# Altium schematic symbol library MISC_Library.SchLib: 20 symbols
Pins are listed as number, name and electrical type; pins without a type are passive.

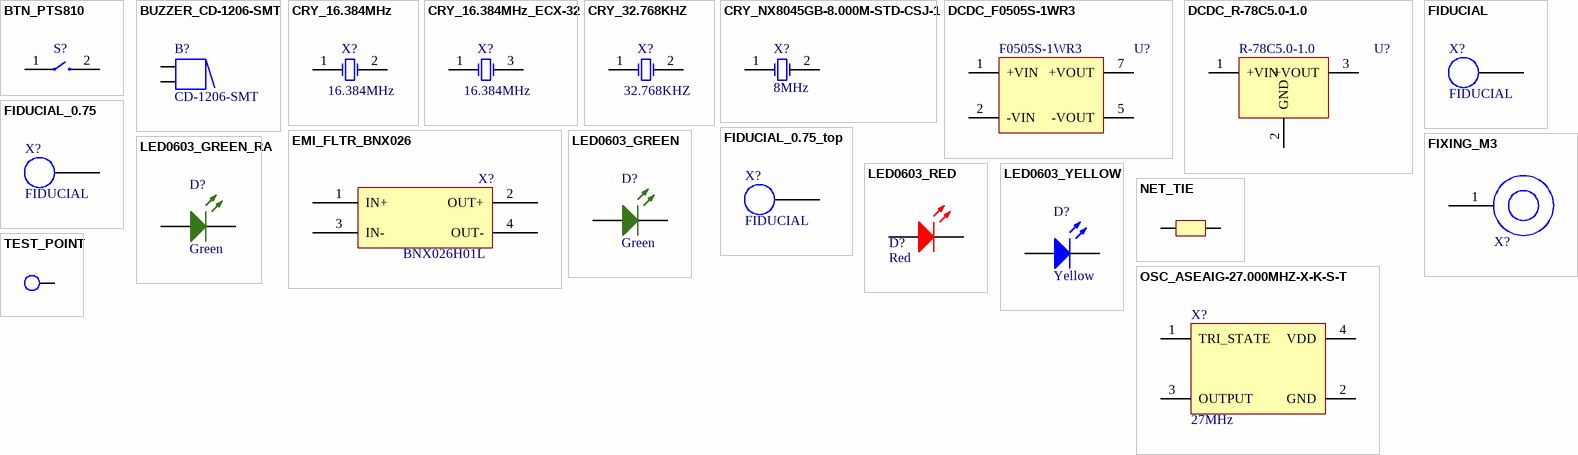
[diagram p0: symbols BTN_PTS810 to TEST_POINT]

## BTN_PTS810
designator S?, comment SPST  (value not drawn)
SWITCH TACTILE SPST-NO 0.05A 16V; P/N: PTS810 SJG 250 SMTR LFS; Order Code: DIGI : CKN10504DKR-ND; Value: SPST
footprint BTN_PTS810
pins: 1 OSC1, 2 OSC2

## BUZZER_CD-1206-SMT
designator B?, comment CD-1206-SMT
BUZZER AUDIO MAGNETIC XDCR 4-8V SMD; Order Code: DIGI : 102-1150-ND; P/N: CD-1206-SMT
footprint BUZZER_CD-1206-SMT
pins: 1 +, 2

## CRY_16.384MHz
designator X?, comment 16.384MHz
CRYSTAL 16.3840MHZ 18PF SMD; P/N: ABLS2-16.384MHZ-D4Y-T; Order Code: DIGI : 535-9876-6-ND; Value: 16.384MHz
footprint CRY_HC49SMD
pins: 1 OSC1, 2 OSC2

## CRY_16.384MHz_ECX-32
designator X?, comment 16.384MHz
CRYSTAL 16.3840MHZ 18PF SMD; P/N: ECS-163.84-18-33-JGN-TR; Order Code: DIGI : XC2306DKR-ND; Value: 16.384MHz
footprint CRY_ECX32
pins: 1 OSC1, 3 OSC2

## CRY_32.768KHZ
designator X?, comment 32.768KHZ
CRYSTAL 32.768KHZ 12.5PF SMD; P/N: CM7V-T1A-32.768KHZ-12.5PF-20PPM-TB-QA; Order Code: DIGI : 2195-CM7V-T1A-32.768KHZ-12.5PF-20PPM-TB-QACT-ND; Value: 32.768KHZ
footprint CRY_ABS07 (0.126" L x 0.059" W (3.20mm x 1.50mm))
pins: 1 OSC1, 2 OSC2

## CRY_NX8045GB-8.000M-STD-CSJ-1
designator X?, comment 8MHz
CRYSTAL 8.0000MHZ 8PF SMD; P/N: NX8045GB-8.000M-STD-CSJ-1; Order Code: DIGI : 644-1206-1-ND; Value: 8MHz
footprint CRY_NX8045GB (0.315" L x 0.177" W (8.00mm x 4.50mm))
pins: 1 OSC1, 2 OSC2

## DCDC_F0505S-1WR3
designator U?, comment P/N: F0505S-1WR3  (hidden comment: 5V)
DC DC CONVERTER 5V 1W; Order Code: DIGI : 2725-F0505S-1WR3-ND; Value: 5V
footprint DCDC_F0505S-1WR3
pins: 1 +VIN, 2 -VIN, 5 -VOUT, 7 +VOUT

## DCDC_R-78C5.0-1.0
designator U?, comment P/N: R-78C5.0-1.0  (hidden comment: 5V)
DC DC CONVERTER 5V 5W; Order Code: DIGI : 945-1395-5-ND; Value: 5V
footprint DCDC_R-78C5.0-1.0
pins: 1 +VIN, 2 GND, 3 +VOUT

## EMI_FLTR_BNX026
designator X?  P/N: BNX026H01L  (hidden comment: EMI_FLTR_BNX026)
FILTER LC 10UF SMD; Order Code: DIGI : 490-12523-1-ND; Value: 35dB @ 50kHz ~ 1GHz
footprint BNX026
footprint BNX026_SM_FP
pins: 1 IN+, 2 OUT+, 3 IN-, 4 OUT-

## FIDUCIAL
designator X?  (no BOM)
FIDUCIAL 1mm
footprint FIDUCIAL
pins: 1

## FIDUCIAL_0.75
designator X?, comment FIDUCIAL  (no BOM)
FIDUCIAL 0.75mm
footprint FIDUCIAL_0.75mm
pins: 1

## FIDUCIAL_0.75_top
designator X?, comment FIDUCIAL  (no BOM)
FIDUCIAL 0.75mm
footprint FIDUCIAL_0.75mm_TOP
pins: 1

## FIXING_M3
designator X?, comment M3  (value not drawn)  (no BOM)
FIXING HOLE M3; Value: M3
footprint FIXING_M3 (FIXING HOLE M3)
pins: 1

## LED0603_GREEN
designator D?, comment Green
LED GREEN CLEAR 0603 SMD; P/N: 150060GS75000; Order Code: DIGI : 732-4971-1-ND; Value: Green
footprint LED0603
pins: 1 A, 2 K

## LED0603_GREEN_RA
designator D?, comment Green
LED GREEN CLEAR 1204 SMD R/A; P/N: 155124GS73200; Order Code: DIGI : 732-5024-6-ND; Value: Green
footprint WL-SMSW_1204 (SMD Mono-color Side view Waterclear, body 3.2x1.5mm)
pins: 1 K, 2 A

## LED0603_RED
designator D?, comment Red
LED RED CLEAR 0603 SMD; P/N: 150060RS75000; Order Code: DIGI : 732-4978-1-ND; Value: Red
footprint LED0603
pins: 1 A, 2 K

## LED0603_YELLOW
designator D?, comment Yellow
LED YELLOW CLEAR 0603 SMD; P/N: 150060YS75000; Order Code: DIGI : 732-4981-1-ND; Value: Yellow
footprint LED0603
pins: 1 A, 2 K

## NET_TIE
designator NT?, comment NET TIE  (value not drawn)  (net tie, no BOM)
footprint Net-Tie_10mil (10mil net tie, no solder mask opening, no solder paste)
footprint Net-Tie_20milWide_60milLong (20mil net tie, no solder mask opening, no solder paste)
pins: 1, 2

## OSC_ASEAIG-27.000MHZ-X-K-S-T
designator X?, comment 27MHz
OSC XO 27.000MHZ 3.3V CMOS SMD; P/N: ASEAIG-27.000MHZ-X-K-S-T; Order Code: DIGI : 535-ASEAIG-27.000MHZ-X-K-S-TCT-ND; Value: 27MHz
footprint CRY_NX3225GA (0.126" L x 0.098" W (3.20mm x 2.50mm))
pins: 1 TRI_STATE, 2 GND, 3 OUTPUT, 4 VDD

## TEST_POINT
designator TP?  (value not drawn)  (no BOM)
footprint TEST_POINT
footprint TEST_POINT_TH
footprint TEST_POINT_TH_Top
pins: 1